# EAGLE library part CON-14-PADSROW (library Namenlos)
DUAL ROW STRAIGHT HEADER 1364 SERIES. 1.27mm x 1.27mm. Without Fixing Post. SMT Source: http://www.leotronics.co.uk/Conexcon/Data%20Sheets/sec.%20A/1364ing.pdf
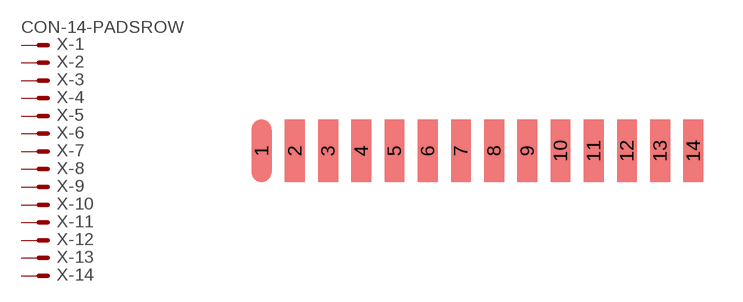
[diagram p13: symbol with the pads of 1365-28; footprint 1365-28]

Designator prefix X; gates -1=MVAL -2=M -3=M -4=M -5=M -6=M -7=M -8=M -9=M -10=M -11=M -12=M -13=M -14=M

## CON-14-PADSROW (OC_FARNELL: unknown; OC_NEWARK: unknown)  [1365-28]
1  -1:S  pas
2  -2:S  pas
3  -3:S  pas
4  -4:S  pas
5  -5:S  pas
6  -6:S  pas
7  -7:S  pas
8  -8:S  pas
9  -9:S  pas
10  -10:S  pas
11  -11:S  pas
12  -12:S  pas
13  -13:S  pas
14  -14:S  pas

## Footprint 1365-28 (pad centres in mm)
DUAL ROW STRAIGHT HEADER 1364 SERIES. 1.27mm x 1.27mm. Without Fixing Post. SMT Source: http://www.leotronics.co.uk/Conexcon/Data%20Sheets/sec.%20A/1364ing.pdf
smd 0.76 x 2.4: 1 -8.255,-0.41; 2 -6.985,-0.41; 3 -5.715,-0.41; 4 -4.445,-0.41; 5 -3.175,-0.41; 6 -1.905,-0.41; 7 -0.635,-0.41; 8 0.635,-0.41; 9 1.905,-0.41; 10 3.175,-0.41; 11 4.445,-0.41; 12 5.715,-0.41; 13 6.985,-0.41; 14 8.255,-0.41